# EAGLE library part LT8609 (library 000_CustomPartsMaster)
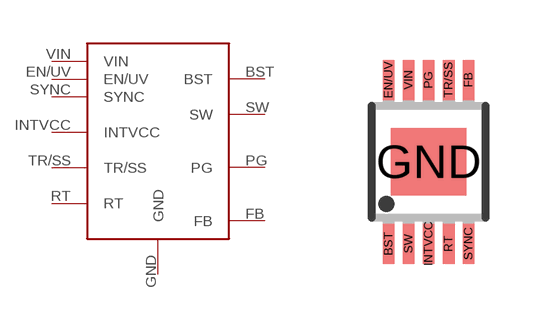
[diagram p30: symbol with the pads of MSOP10-MSE; footprint MSOP10-MSE]

Designator prefix -

## LT8609  [MSOP10-MSE]
BST  BST
EN/UV  EN/UV
FB  FB
GND  GND
INTVCC  INTVCC
PG  PG
RT  RT
SW  SW
SYNC  SYNC
TR/SS  TR/SS
VIN  VIN  in

## Footprint MSOP10-MSE (pad centres in mm)
10 Lead Platic MSOP Source: http://www.linear.com .. LT1996
smd 0.3 x 1: BST -1,-2.05; EN/UV -1,2.05; FB 1,2.05; INTVCC 0,-2.05; PG 0,2.05; RT 0.5,-2.05; SW -0.5,-2.05; SYNC 1,-2.05; TR/SS 0.5,2.05; VIN -0.5,2.05
smd 1.88 x 1.68: GND 0,0